# EAGLE library part AM-HRRN-XXX (library untitled)
AM-HRRn-XXX n=3,6,8,10,11 or 15 ( ! not n=13) AM Super Generative Receivers Mars 2004 Eric Magraner - e_magraner@yahoo.fr
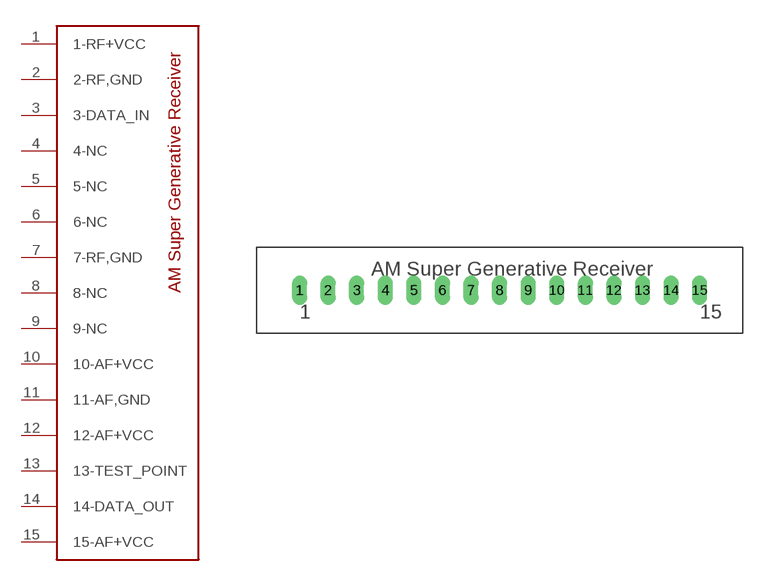
[diagram p0: symbol with the pads of AM-HRRN-XXX; footprint AM-HRRN-XXX]

Designator prefix -

## AM-HRRN-XXX  [AM-HRRN-XXX]
1  1-RF+VCC  pwr
2  2-RF,GND  pwr
3  3-DATA_IN  in
4  4-NC  nc
5  5-NC  nc
6  6-NC  nc
7  7-RF,GND  pwr
8  8-NC  nc
9  9-NC  nc
10  10-AF+VCC  pwr
11  11-AF,GND  pwr
12  12-AF+VCC  pwr
13  13-TEST_POINT  out
14  14-DATA_OUT  out
15  15-AF+VCC  pwr

## Footprint AM-HRRN-XXX (pad centres in mm)
AM-HRRn-XXX n=3,6,8,10,11 or 15 ( ! not n=13) SIL-15 AM Super Generative Receivers Mars 2004 Eric Magraner - e_magraner@yahoo.fr
drill 0.813 long: 1 -35.56,0; 2 -33.02,0; 3 -30.48,0; 4 -27.94,0; 5 -25.4,0; 6 -22.86,0; 7 -20.32,0; 8 -17.78,0; 9 -15.24,0; 10 -12.7,0; 11 -10.16,0; 12 -7.62,0; 13 -5.08,0; 14 -2.54,0; 15 0,0